# Altium schematic symbol library TDKxx-yySzz.SchLib: 1 symbol
Pins are listed as number, name and electrical type; pins without a type are passive.

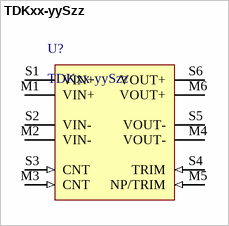
[diagram p0: symbol TDKxx-yySzz]

## TDKxx-yySzz
designator U?
Isolated Single Output DC/DC Converter, 15/20/30 W, 2x6-Pin DIP (*M*iddle and *S*ide pin-out in one footprint/package, hopefully); Manufacturer: TDPOWER; LCSC Part #: C570789
footprint TDKxx-yySzz (DIP, 2x6-Leads)
pins: M1 VIN+ (power), M2 VIN- (power), M3 CNT (in), M4 VOUT- (power), M5 NP/TRIM (in), M6 VOUT+ (power), S1 VIN+ (power), S2 VIN- (power), S3 CNT (in), S4 TRIM (in), S5 VOUT- (power), S6 VOUT+ (power)